# Altium schematic symbol library Library1.SCHLIB: 129 symbols (part 3 of 3)
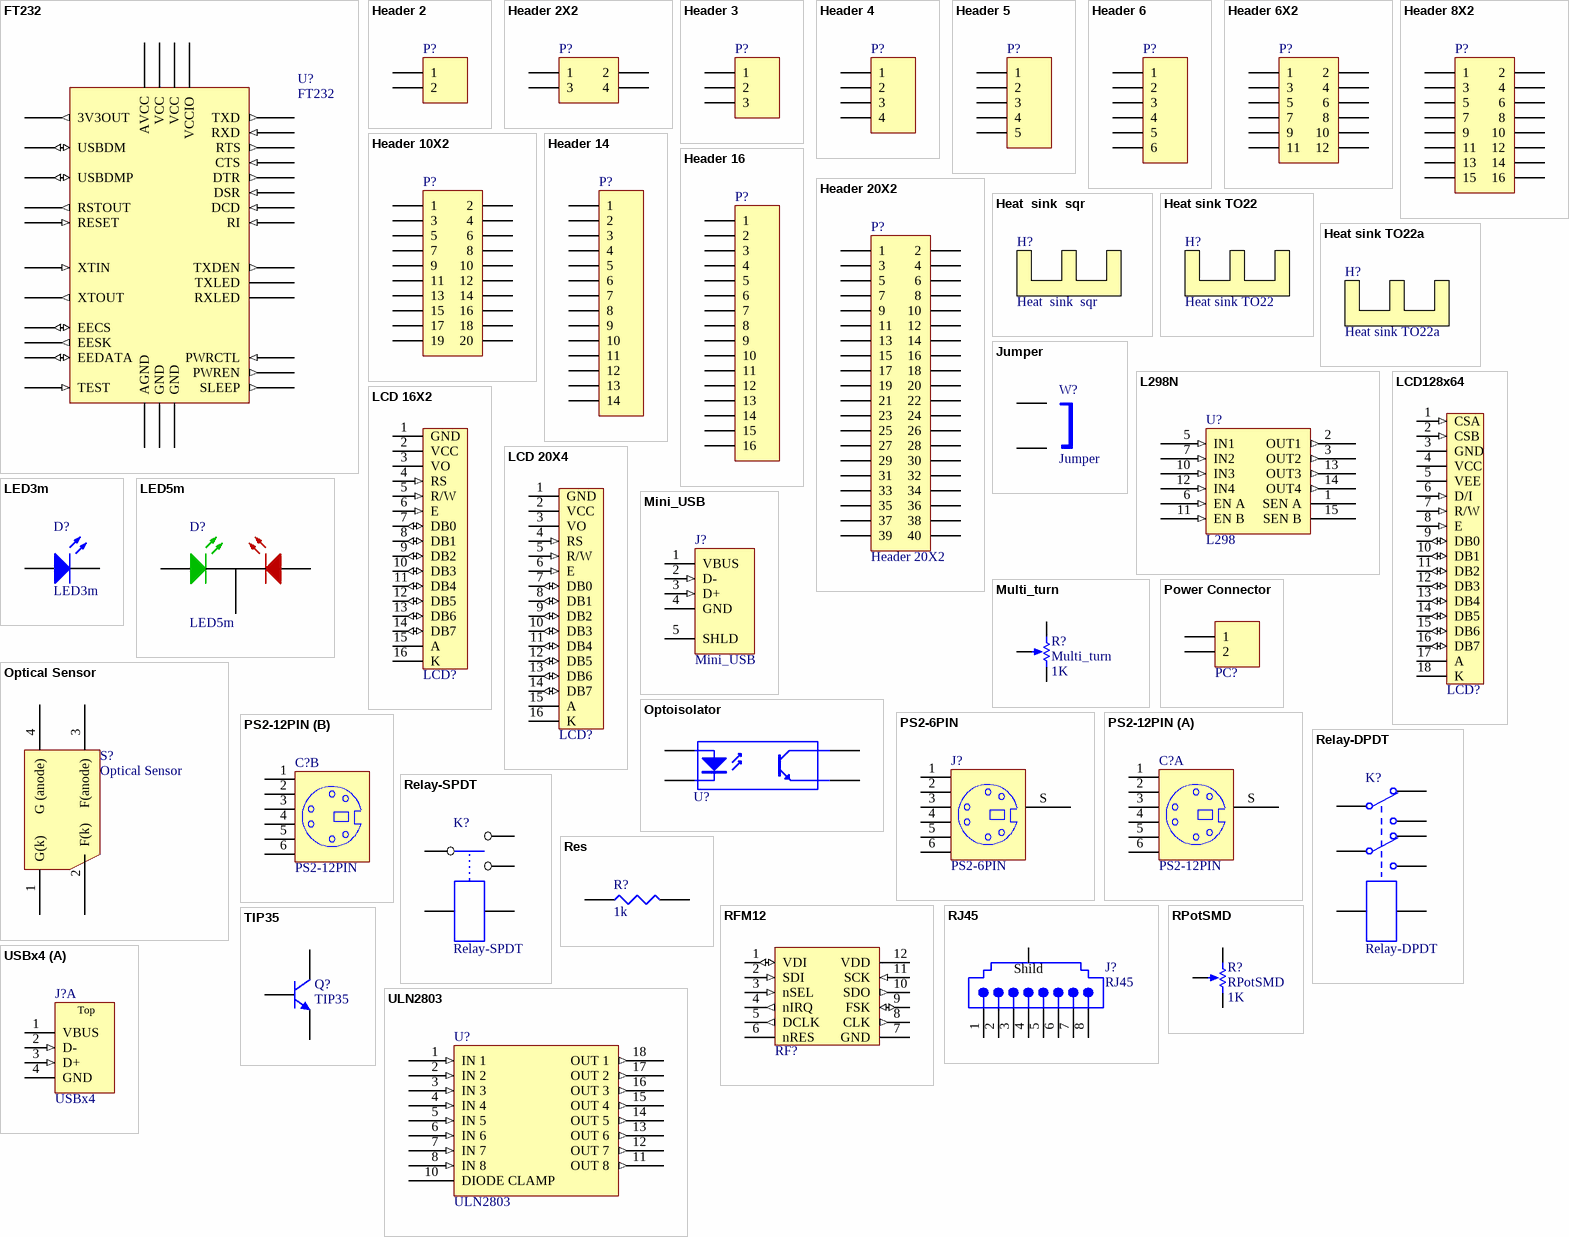
[diagram p9: symbols FT232 to USBx4]

## Header 20X2
designator P?
Header, 20-Pin, Dual row; LatestRevisionDate: 17-Jul-2002; LatestRevisionNote: Re-released for DXP Platform.; Publisher: Altium Limited
signal-integrity model Connector
footprint My_IDCM40
footprint My_IDCM40A
footprint My_IDCRM40
pins: 1, 2, 3, 4, 5, 6, 7, 8, 9, 10, 11, 12, 13, 14, 15, 16, 17, 18, 19, 20, 21, 22, 23, 24, 25, 26, 27, 28, 29, 30, 31, 32, 33, 34, 35, 36, 37, 38, 39, 40

## Heat  sink  sqr
designator H?
Heat sink sqr
footprint My_Heat_sink_sqr

## Heat sink TO22
designator H?
Heat sink for TO22
footprint My_Heat_sink_TO22

## Heat sink TO22a
designator H?
Heat sink for TO22
footprint My_Heat_sink_TO22a

## Jumper
designator W?
Jumper Wire; Manufacturer: Generic Components; Published: 1999
footprint My_IDC-2
pins: 1, 2

## L298N
designator U?, comment L298
Dual Full Bridge Driver; Text Field1: TAB CONNECTED TO PIN 8.
footprint My_ZIP-15V
pins: 1 SEN A, 2 OUT1 (out), 3 OUT2 (out), 4 VS (power) hidden to VS, 5 IN1 (in), 6 EN A (in), 7 IN2 (in), 8 GND (power) hidden to GND, 9 VSS (power) hidden to VSS, 10 IN3 (in), 11 EN B (in), 12 IN4 (in), 13 OUT3 (out), 14 OUT4 (out), 15 SEN B

## LCD128x64
designator LCD?, comment LCD 128X64  (value not drawn)
Graphic LCD with KS108 Controller
footprint My_LCD128x64
pins: 1 CSA (in), 2 CSB (in), 3 GND (power), 4 VCC (power), 5 VEE (power), 6 D/I (in), 7 R/W (in), 8 E (in), 9 DB0 (io), 10 DB1 (io), 11 DB2 (io), 12 DB3 (io), 13 DB4 (io), 14 DB5 (io), 15 DB6 (io), 16 DB7 (io), 17 A, 18 K

## LCD 16X2
designator LCD?  (value not drawn)
LCD 16X2 Character lcd
footprint My_LCD 16x2-A
pins: 1 GND (power), 2 VCC (power), 3 VO, 4 RS (in), 5 R/W (in), 6 E (in), 7 DB0 (io), 8 DB1 (io), 9 DB2 (io), 10 DB3 (io), 11 DB4 (io), 12 DB5 (io), 13 DB6 (io), 14 DB7 (io), 15 A, 16 K

## LCD 20X4
designator LCD?  (value not drawn)
LCD 20X4 Character lcd
footprint My_LCD 20x4-A
footprint My_LCD 20x4-B
pins: 1 GND (power), 2 VCC (power), 3 VO, 4 RS (in), 5 R/W (in), 6 E (in), 7 DB0 (io), 8 DB1 (io), 9 DB2 (io), 10 DB3 (io), 11 DB4 (io), 12 DB5 (io), 13 DB6 (io), 14 DB7 (io), 15 A, 16 K

## LED3m
designator D?
Typical INFRARED GaAs LED; Published: 8-Jun-2000; LatestRevisionDate: 08-Jul-2005; LatestRevisionNote: Mech Layer 1 removed.; Publisher: Altium Limited
footprint My_LED3MM
pins: A, K

## LED5m
designator D?
Typical INFRARED GaAs LED; Published: 8-Jun-2000; LatestRevisionDate: 08-Jul-2005; LatestRevisionNote: Mech Layer 1 removed.; Publisher: Altium Limited
footprint My_DUOLED5MM
pins: AG, AR, K

## Mini_USB
designator J?
USB 2.0, Right Angle, SMT, B Type, Receptacle, 5 Position, Black; ContactMaterial: Copper Alloy; ContactPlating: Gold (30); PCB_Layout: Complies with manufacturer's recommendation.; DrillSize: Corresponds to nominal value.; PanelGround: Without; Published: 15-Jul-2004; DatasheetDocument: 27-Jun-2003; PackageDocument: 27-Jun-2003; PackageReference: 440247; Publisher: Altium Limited; HousingMaterial: Thermoplastic; ComponentLink1Description: Manufacturer Link; ComponentLink1URL: http://www.tycoelectronics.com/; ComponentLink2Description: Packaging Specification; ComponentLink2URL: http://ecommas.tycoelectronics.com/commerce/DocumentDelivery/DDEController?Action=showdoc&DocId=Customer+Drawing%7F440247%7FD%7Fpdf%7FEnglish%7FC_440247_D.pdf
footprint My_USB
signal-integrity model USB2.0
pins: 1 VBUS (power) "Power", 2 D- (in) "-DATA", 3 D+ (in) "+DATA", 4 GND (power) "Ground", 5 SHLD "Shield"

## Multi_turn
designator R?  value 1K
Potentiometer; Sim Note: Enter the Resistance value and the set point into parameter fields.; Set Position: 0.5; Published: 8-Jun-2000; LatestRevisionDate: 17-Jul-2002; LatestRevisionNote: Re-released for DXP Platform.; PackageReference: VR5; Publisher: Altium Limited
footprint My_Pot_trim
simulation model POT (Potentiometer)
pins: 1 TOP, 2 BOT, 3 TAP
1 alternate drawing of the same symbol

## Optical Sensor
designator S?
photo leflector on floor
footprint My_SNS 4
pins: 1 G(k), 2 F(k), 3 F(anode), 4 G (anode)

## Optoisolator
designator U?  (value not drawn)
footprint My_opto
pins: 1 A, 2 K, 3 C, 4 E

## Power Connector
designator PC?  (value not drawn)
white Power Connector
footprint My_ Power_Connector
pins: 1, 2

## PS2-6PIN
designator J?
6 Pin Through Hole PS2 Socket (Kycon P/N); Published: 17-Dec-2003; Publisher: Altium Limited; ComponentLink1Description: Manufacturer Link; ComponentLink1URL: http://www.oupiin.com/prodindx.html#Headers
footprint My_PS2-6PIN
signal-integrity model Connector
pins: 1, 2, 3, 4, 5, 6, S

## PS2-12PIN
designator C?
12 Pin Through Hole PS2 Socket (
footprint My_PS2_2
part A pins: 1, 2, 3, 4, 5, 6, S
part B pins: 7 1, 8 2, 9 3, 10 4, 11 5, 12 6

## Relay-DPDT
designator K?
Dual-Pole Dual-Throw Relay; Published: 24-Mar-1999; LatestRevisionDate: 17-Jul-2002; LatestRevisionNote: Re-released for DXP Platform.; PackageReference: DIP-P8; Publisher: Altium Limited
footprint My_REL_cochick
pins: 1, 2, O1, O2, P1, P2, S1, S2

## Relay-SPDT
designator K?
standard single contact relay
footprint My_rel
pins: 1, 2, 3, 4, 5

## Res
designator R?, comment 1k
resistor 1/4 wat; Value: 1k
footprint My_axial-0.4
pins: 1, 2

## RFM12
designator RF?  (value not drawn)
Universal ISM Band FSK Transceiver Module
footprint My_RFM12 (RFM12 Transceiver)
pins: 1 VDI (io), 2 SDI (in), 3 nSEL (in), 4 nIRQ (out), 5 DCLK (out), 6 nRES, 7 GND (power), 8 CLK (out), 9 FSK (io), 10 SDO (out), 11 SCK (in), 12 VDD (power)

## RJ45
designator J?
Right Angle, Standard Profile, RJ45-Keyed, Flange Mount PCB Jack; Ports: 1; Positions/Loaded: Port1 - 8 Keyed/8; PerformanceCategory: 3; PCB_Mounting: Thru-Hole; ComponentAvailability: Obsolete; DrillSize: Nominal, Rounded to nearest 0.05mm; PCB_Layout: Complies with Manufacturer's Recommendation.; Published: 25-Jun-2002; DatasheetDocument: 18-Dec-2001; PackageDocument: 18-Dec-2001; PackageReference: 15-43-6233; Publisher: Altium Limited; ComponentLink1Description: Manufacturer Link; ComponentLink1URL: http://www.molex.com/; ComponentLink2Description: Datasheet; ComponentLink2URL: http://www.molex.com/cmc_upload/common_files/1212003_catalogmx41314.pdf; ComponentLink3Description: Iges Model; ComponentLink3URL: http://www.molex.com/pdm_docs/igs/15-43-6233_igs.zip
footprint My_RJ45
signal-integrity model Modular Jack
pins: 1, 2, 3, 4, 5, 6, 7, 8, G Shild

## RPotSMD
designator R?  value 1K
Potentiometer; Sim Note: Enter the Resistance value and the set point into parameter fields.; Set Position: 0.5; Published: 8-Jun-2000; LatestRevisionDate: 17-Jul-2002; LatestRevisionNote: Re-released for DXP Platform.; PackageReference: VR5; Publisher: Altium Limited
footprint My_Pot
simulation model POT (Potentiometer)
pins: 1 TOP, 2 BOT, 3 TAP
1 alternate drawing of the same symbol

## TIP35
designator Q?
power npn transistor
footprint My_TOP3
pins: B, C, E

## ULN2803
designator U?
HIGH-VOLTAGE,HIGH-CURRENT DARLINTON ARRAYS
footprint My_DIP-18
pins: 1 IN 1 (in), 2 IN 2 (in), 3 IN 3 (in), 4 IN 4 (in), 5 IN 5 (in), 6 IN 6 (in), 7 IN 7 (in), 8 IN 8 (in), 9 GND (power) hidden to GND, 10 DIODE CLAMP, 11 OUT 8 (out), 12 OUT 7 (out), 13 OUT 6 (out), 14 OUT 5 (out), 15 OUT 4 (out), 16 OUT 3 (out), 17 OUT 2 (out), 18 OUT 1 (out)

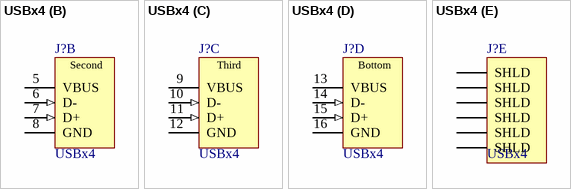
[diagram p7: symbol USBx4]

## USBx4
designator J?
USB 1.1, Right Angle, Thru-Hole, A Type, Receptacle, 4x4x4x4 Position, Fourfold Stacked, Black; ContactMaterial: Phosphor Bronze; ContactPlating: Gold (30) over Nickel (50); TerminationLength: 2.36mm [0.093in.]; PCB_Layout: Complies with manufacturer's recommendation.; DrillSize: Corresponds to nominal value.; PanelGround: Without; Published: 15-Jul-2004; DatasheetDocument: 30-Jul-2002; PackageDocument: 30-Jul-2002; PackageReference: 1470007; Publisher: Altium Limited; HousingMaterial: 30% Glass-Filled Thermoplastic; ComponentLink1Description: Manufacturer Link; ComponentLink1URL: http://www.tycoelectronics.com/; ComponentLink2Description: Packaging Specification; ComponentLink2URL: http://ecommas.tycoelectronics.com/commerce/DocumentDelivery/DDEController?Action=showdoc&DocId=Customer+Drawing%7F1470007%7FO%7Fpdf%7FEnglish%7FENG_CD_1470007_O.pdf
footprint My_USB_4
signal-integrity model USB1.1
part A pins: 1 VBUS (power) "Power", 2 D- (in) "-DATA", 3 D+ (in) "+DATA", 4 GND (power) "Ground"
part B pins: 5 VBUS (power) "Power", 6 D- (in) "-DATA", 7 D+ (in) "+DATA", 8 GND (power) "Ground"
part C pins: 9 VBUS (power) "Power", 10 D- (in) "-DATA", 11 D+ (in) "+DATA", 12 GND (power) "Ground"
part D pins: 13 VBUS (power) "Power", 14 D- (in) "-DATA", 15 D+ (in) "+DATA", 16 GND (power) "Ground"
part E pins: 17 SHLD "Shield", 18 SHLD "Shield", 19 SHLD "Shield", 20 SHLD "Shield", 21 SHLD "Shield", 22 SHLD "Shield"
part A text: Top
part B text: Second
part C text: Third
part D text: Bottom